# EAGLE library part 68711014522 (library Eagle_FPC_CONNECTOR_AND_FFC_CAB (rev18c))
WR-FPC 0.5mm SMT ZIF Horizontal Bottom Contact, 10 Pins=>Code : Con_FPC_ZIF_0.50_68711014522 <http://katalog.we-online.de/media/images/eican/Con_FPC_ZIF_0.50_6871xx14522_pf2.jpg> Details see: http://katalog.we-online.de/en/em/687_1xx_145_22 Created 2014-07-09, Karrer Zheng 2014 (C) Würth Elektronik
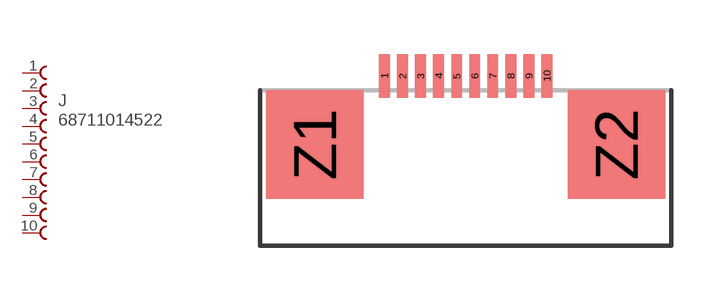
[diagram p53: symbol with the pads of 68711014522; footprint 68711014522]

Designator prefix J

## 68711014522  [68711014522]
1  1  pas
2  2  pas
3  3  pas
4  4  pas
5  5  pas
6  6  pas
7  7  pas
8  8  pas
9  9  pas
10  10  pas

## Footprint 68711014522 (pad centres in mm)
WR-FPC 0.5mm SMT ZIF Horizontal Bottom Contact, 10 Pins
smd 0.3 x 1.2: 1 -2.25,1.9; 2 -1.75,1.9; 3 -1.25,1.9; 4 -0.75,1.9; 5 -0.25,1.9; 6 0.25,1.9; 7 0.75,1.9; 8 1.25,1.9; 9 1.75,1.9; 10 2.25,1.9
smd 2.7 x 3: Z1 -4.18,0; Z2 4.18,0